# EAGLE library part PWR_CHG_CN3791 (library !GPLIB_ACTIVE)
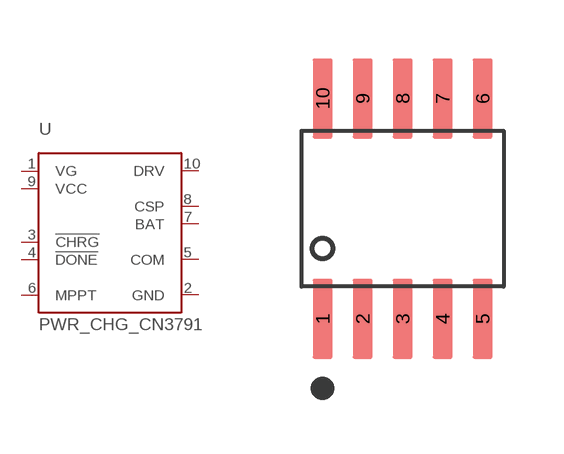
[diagram p11: symbol with the pads of SSOP10; footprint SSOP10]

Designator prefix U

## PWR_CHG_CN3791  [SSOP10]
1  VG
2  GND
3  !CHRG
4  !DONE
5  COM
6  MPPT
7  BAT
8  CSP
9  VCC
10  DRV

## Footprint SSOP10 (pad centres in mm)
smd 0.5 x 2: 1 -2,-2.757; 2 -1,-2.757; 3 0,-2.757; 4 1,-2.757; 5 2,-2.757; 6 2,2.757; 7 1,2.757; 8 0,2.757; 9 -1,2.757; 10 -2,2.757